# EAGLE library part DECADE-74HC08 (library DECADE-libraries)
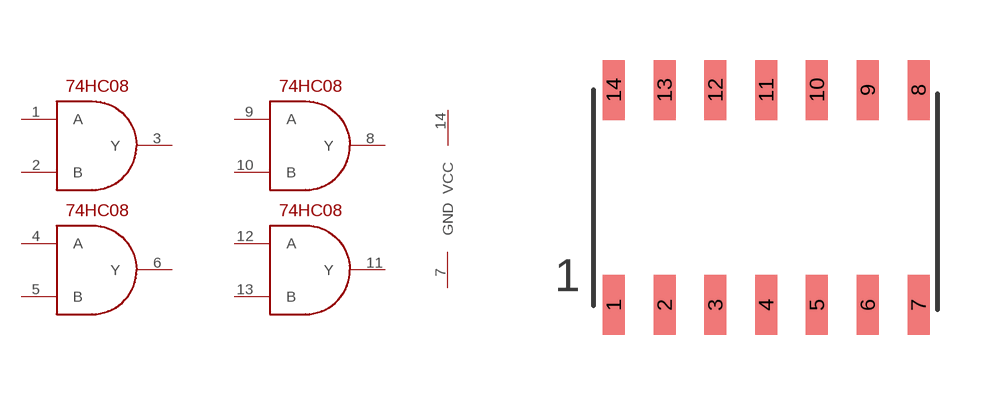
[diagram p24: symbol with the pads of DECADE-SO-14; footprint DECADE-SO-14]

Designator prefix -; gates G$1=74HC08 G$2=74HC08 G$3=74HC08 G$4=74HC08 G$5=PWR-5V

## DECADE-74HC08  [DECADE-SO-14]
1  G$1:A  in
2  G$1:B  in
3  G$1:Y  out
4  G$2:A  in
5  G$2:B  in
6  G$2:Y  out
7  G$5:GND  pwr
8  G$3:Y  out
9  G$3:A  in
10  G$3:B  in
11  G$4:Y  out
12  G$4:A  in
13  G$4:B  in
14  G$5:VCC  pwr

## Footprint DECADE-SO-14 (pad centres in mm)
smd 0.55 x 1.5: 1 -3.6,-2.88; 2 -2.33,-2.88; 3 -1.06,-2.88; 4 0.21,-2.88; 5 1.48,-2.88; 6 2.75,-2.88; 7 4.02,-2.88; 8 4.02,2.5; 9 2.75,2.5; 10 1.48,2.5; 11 0.21,2.5; 12 -1.06,2.5; 13 -2.33,2.5; 14 -3.6,2.5